# EAGLE library part LTC3374*? (library ic-LT)
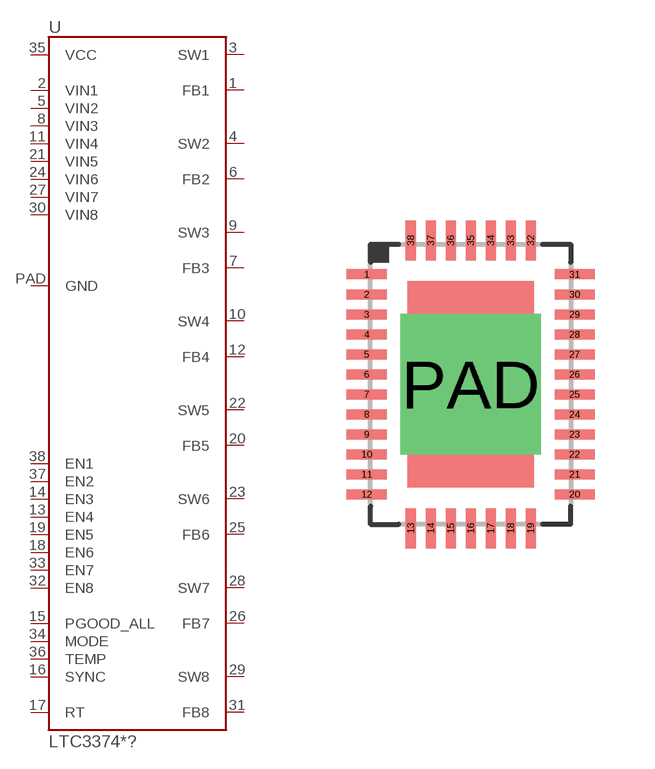
[diagram p13: symbol with the pads of QFN38-0.5; footprint QFN38-0.5]

Designator prefix U

## LTC3374EUHF, LTC3374HUHF, LTC3374IUHF  [QFN38-0.5]
1  FB1
2  VIN1
3  SW1
4  SW2
5  VIN2
6  FB2
7  FB3
8  VIN3
9  SW3
10  SW4
11  VIN4
12  FB4
13  EN4
14  EN3
15  PGOOD_ALL
16  SYNC
17  RT
18  EN6
19  EN5
20  FB5
21  VIN5
22  SW5
23  SW6
24  VIN6
25  FB6
26  FB7
27  VIN7
28  SW7
29  SW8
30  VIN8
31  FB8
32  EN8
33  EN7
34  MODE
35  VCC
36  TEMP
37  EN2
38  EN1
PAD  GND

## Footprint QFN38-0.5 (pad centres in mm)
smd 1 x 0.25: 1 -2.6,2.75; 2 -2.6,2.25; 3 -2.6,1.75; 4 -2.6,1.25; 5 -2.6,0.75; 6 -2.6,0.25; 7 -2.6,-0.25; 8 -2.6,-0.75; 9 -2.6,-1.25; 10 -2.6,-1.75; 11 -2.6,-2.25; 12 -2.6,-2.75; 20 2.6,-2.75; 21 2.6,-2.25; 22 2.6,-1.75; 23 2.6,-1.25; 24 2.6,-0.75; 25 2.6,-0.25; 26 2.6,0.25; 27 2.6,0.75; 28 2.6,1.25; 29 2.6,1.75; 30 2.6,2.25; 31 2.6,2.75
smd 0.25 x 1: 13 -1.5,-3.6; 14 -1,-3.6; 15 -0.5,-3.6; 16 0,-3.6; 17 0.5,-3.6; 18 1,-3.6; 19 1.5,-3.6; 32 1.5,3.6; 33 1,3.6; 34 0.5,3.6; 35 0,3.6; 36 -0.5,3.6; 37 -1,3.6; 38 -1.5,3.6
drill 2.5 pad 3.15 square: PAD 0,0